# Altium footprint library 二三极管 MOS.PCBLIB: 88 footprints (part 6 of 6)
Each footprint in its own frame and in the unit in brackets; x right, y up, seen from the top. Pads: shape width x height; smd on the part's side, far side on the other; paste and mask are expansions set on the pad; w line width, h text height; cw(c..) or ccw(c..) is an arc to the next point about the centre after c.
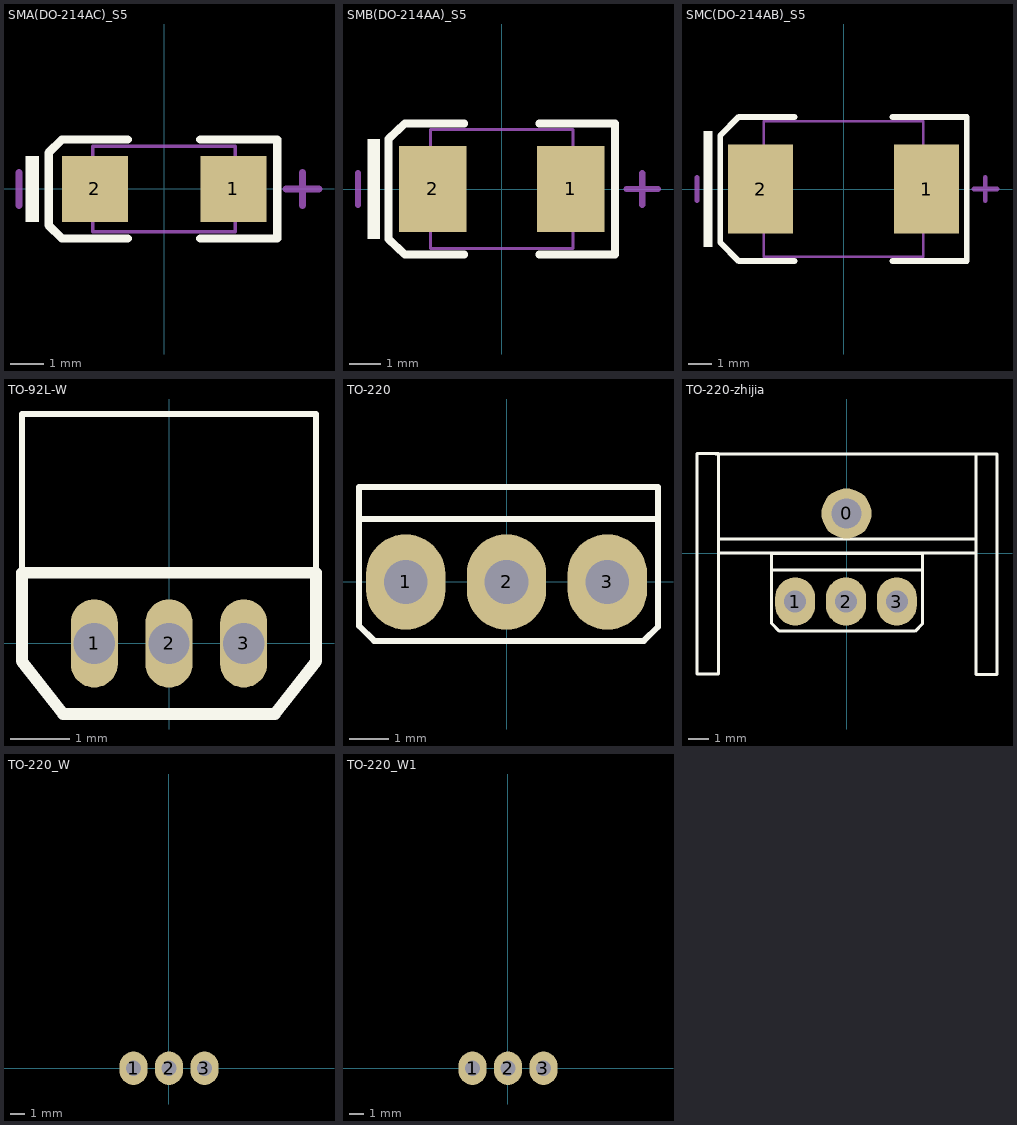
[diagram p5: the footprints below, top view; thin cyan lines are the x and y axes]

## SMA(DO-214AC)_S5 [mm]
pads (2):
  rect 2x2 smd: 1(2.1,0) 2(-2.1,0)
TopOverlay:
  rectangle: -4.2,-1 -3.8,1
  lines w0.254: -1.1,-1.5 -3.1,-1.5 -3.5,-1.1 -3.5,1.1 -3.1,1.5 -1.1,1.5 ; 1.1,-1.5 3.431,-1.5 3.431,1.5 1.1,1.5
Mechanical13:
  lines w0.1: -2.16,-1.3 -2.16,1.3 2.16,1.3 2.16,-1.3 -2.16,-1.3
Mechanical15:
  lines w0.203: -4.4,-0.5 -4.4,0.5 ; 3.7,0 4.7,0 ; 4.2,-0.5 4.2,0.5

## SMB(DO-214AA)_S5 [mm]
pads (2):
  rect 2.159x2.743 smd: 1(2.21,0) 2(-2.21,0)
TopOverlay:
  rectangle: -4.296,-1.6 -3.896,1.6
  lines w0.254: -1.2,-2.1 -3.1,-2.1 -3.625,-1.6 -3.625,1.6 -3.1,2.1 -1.2,2.1 ; 1.2,-2.1 3.625,-2.1 3.625,2.1 1.2,2.1
Mechanical13:
  lines w0.1: -2.285,-1.905 2.285,-1.905 2.285,1.905 -2.285,1.905 -2.285,-1.905
Mechanical15:
  lines w0.203: -4.6,-0.5 -4.6,0.5 ; 4,0 5,0 ; 4.5,-0.5 4.5,0.5

## SMC(DO-214AB)_S5 [mil]
pads (2):
  rect 110x150 smd: 1(140.49,0) 2(-140.49,0)
TopOverlay:
  rectangle: -237.2,-98.43 -221.46,98.43
  lines w10: -82.68,-122.05 -177.17,-122.05 -208.66,-90.55 -208.66,90.55 -177.17,122.05 -82.68,122.05 ; 82.68,-122.05 208.66,-122.05 208.66,122.05 82.68,122.05
Mechanical13:
  lines w3.94: -135.04,-114.96 -135.04,114.96 135.04,114.96 135.04,-114.96 -135.04,-114.96
Mechanical15:
  lines w8: -248.03,-19.68 -248.03,19.68 ; 220.47,0 259.84,0 ; 240.16,-19.68 240.16,19.68

## TO-92L-W [mm]
pads (3):
  oval 0.8x1.5 hole 0.7 mask+0.051: 1(-1.27,0) 2(0,0) 3(1.27,0)
TopOverlay:
  lines w0.1: -2.5,1.2 -2.5,3.9 2.5,3.9 2.5,1.2
  lines w0.2: -2.5,-0.3 -2.5,1.2 2.5,1.2 2.5,-0.3 1.8,-1.2 -1.8,-1.2 -2.5,-0.3

## TO-220 [mm]
height 4
pads (3):
  oval 2x2.4 hole 1.1: 1(-2.54,0) 2(0,0) 3(2.54,0)
TopOverlay:
  lines w0.15: -3.715,1.994 -3.715,2.39 3.815,2.39 3.815,-1.128 3.459,-1.484 -3.334,-1.484 -3.715,-1.103 -3.715,2.387 ; -3.689,1.587 3.786,1.587

## TO-220-zhijia [mm] "220，3?"
pads (4):
  round 2.5 hole 1.5: 0(0,2)
  oval 2x2.4 hole 1.1: 1(-2.565,-2.4) 2(-0.025,-2.4) 3(2.515,-2.4)
TopOverlay:
  lines w0.15: -6.55,4.975 6.475,4.975 ; -6.375,0.025 6.375,0.025 ; -6.375,0.725 6.375,0.725 ; -3.74,-0.406 -3.74,-0.01 3.79,-0.01 3.79,-3.528 3.434,-3.884 -3.359,-3.884 -3.74,-3.503 -3.74,-0.013 ; -3.714,-0.813 3.761,-0.813 ; 6.475,4.975 6.475,-6.05 7.525,-6.05 7.525,4.975 6.475,4.975 ; -7.475,-6.025 -6.4,-6.025 -6.4,5 -7.475,5 -7.475,-6.025

## TO-220_W [mm]
height 4
pads (3):
  oval 2x2.4 hole 1.1: 1(-2.54,0) 2(0,0) 3(2.54,0)
BottomOverlay:
  circle w0.254: c0,16.7 r1.75
  lines w0.127: -5,3.975 -5,20 5,20 5,4 -5,4 ; -5,13 5,13 ; -3.715,2.387 -3.715,3.985 ; 3.815,2.39 3.815,3.948
  lines w0.15: -3.715,1.994 -3.715,2.39 3.815,2.39 3.815,-1.128 3.459,-1.484 -3.334,-1.484 -3.715,-1.103 -3.715,2.387 ; -3.689,1.587 3.786,1.587

## TO-220_W1 [mm]
height 4
pads (3):
  oval 2x2.4 hole 1.1: 1(-2.54,0) 2(0,0) 3(2.54,0)
BottomOverlay:
  circle w0.254: c0,16.7 r1.75
  lines w0.127: -5,3.975 -5,20 5,20 5,4 -5,4 ; -5,13 5,13 ; -3.715,2.387 -3.715,3.985 ; 3.815,2.39 3.815,3.948
  lines w0.15: -3.715,1.994 -3.715,2.39 3.815,2.39 3.815,-1.128 3.459,-1.484 -3.334,-1.484 -3.715,-1.103 -3.715,2.387 ; -3.689,1.587 3.786,1.587
MultiLayer:
  pour cut-out: 1.8,1.1 2.05,1.25 2.275,1.325 2.425,1.35 2.575,1.35 2.725,1.325 2.85,1.3 3.025,1.225 3.25,1.1 3.425,0.925 3.55,0.775 3.6,0.675 3.65,0.55 3.675,0.4 3.7,0.25 3.7,-0.225 3.675,-0.425 3.625,-0.575 3.6,-0.65 3.55,-0.725 3.475,-0.85 3.35,-1 3.225,-1.1 3.075,-1.2 2.9,-1.3 2.75,-1.35 2.475,-1.35 2.3,-1.325 2.125,-1.275 1.925,-1.175 1.6,-0.9 1.425,-0.475 1.4,-0.2 1.4,0.3 1.45,0.525 1.575,0.85
  pour cut-out: -0.725,1.125 -0.475,1.275 -0.25,1.35 -0.1,1.375 0.05,1.375 0.2,1.35 0.325,1.325 0.5,1.25 0.725,1.125 0.9,0.95 1.025,0.8 1.075,0.7 1.125,0.575 1.15,0.425 1.175,0.275 1.175,-0.2 1.15,-0.4 1.1,-0.55 1.075,-0.625 1.025,-0.7 0.95,-0.825 0.825,-0.975 0.7,-1.075 0.55,-1.175 0.375,-1.275 0.225,-1.325 -0.05,-1.325 -0.225,-1.3 -0.4,-1.25 -0.6,-1.15 -0.925,-0.875 -1.1,-0.45 -1.125,-0.175 -1.125,0.325 -1.075,0.55 -0.95,0.875
  pour cut-out: -3.275,1.1 -3.025,1.25 -2.8,1.325 -2.65,1.35 -2.5,1.35 -2.35,1.325 -2.225,1.3 -2.05,1.225 -1.825,1.1 -1.65,0.925 -1.525,0.775 -1.475,0.675 -1.425,0.55 -1.4,0.4 -1.375,0.25 -1.375,-0.225 -1.4,-0.425 -1.45,-0.575 -1.475,-0.65 -1.525,-0.725 -1.6,-0.85 -1.725,-1 -1.85,-1.1 -2,-1.2 -2.175,-1.3 -2.325,-1.35 -2.6,-1.35 -2.775,-1.325 -2.95,-1.275 -3.15,-1.175 -3.475,-0.9 -3.65,-0.475 -3.675,-0.2 -3.675,0.3 -3.625,0.525 -3.5,0.85